# Altium schematic symbol library MAX-MAX8686-SQ43.SchLib: 1 symbol
Pins are listed as number, name and electrical type; pins without a type are passive.

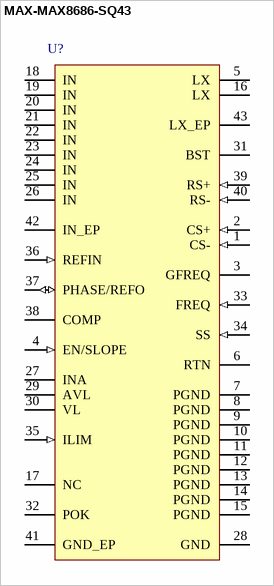
[diagram p0: symbol MAX-MAX8686-SQ43]

## MAX-MAX8686-SQ43
designator U?
footprint T4066M+1_N (QFN, 40-Leads, Body 6x6mm, Pitch 0.5mm, Three Thermal Pads, IPC Medium Density)
pins: 1 CS- (in), 2 CS+ (in), 3 GFREQ, 4 EN/SLOPE (in), 5 LX, 6 RTN (power), 7 PGND (power), 8 PGND (power), 9 PGND (power), 10 PGND (power), 11 PGND (power), 12 PGND (power), 13 PGND (power), 14 PGND (power), 15 PGND (power), 16 LX, 17 NC, 18 IN (power), 19 IN (power), 20 IN (power), 21 IN (power), 22 IN (power), 23 IN (power), 24 IN (power), 25 IN (power), 26 IN (power), 27 INA (power), 28 GND (power), 29 AVL (power), 30 VL (power), 31 BST, 32 POK, 33 FREQ (in), 34 SS (in), 35 ILIM (in), 36 REFIN (in), 37 PHASE/REFO (io), 38 COMP, 39 RS+ (in), 40 RS- (in), 41 GND_EP (power), 42 IN_EP, 43 LX_EP